# Altium footprint library linear.PCBLIB: 119 footprints (part 1 of 8)
Each footprint in its own frame and in the unit in brackets; x right, y up, seen from the top. Pads: shape width x height; smd on the part's side, far side on the other; paste and mask are expansions set on the pad; w line width, h text height; cw(c..) or ccw(c..) is an arc to the next point about the centre after c.
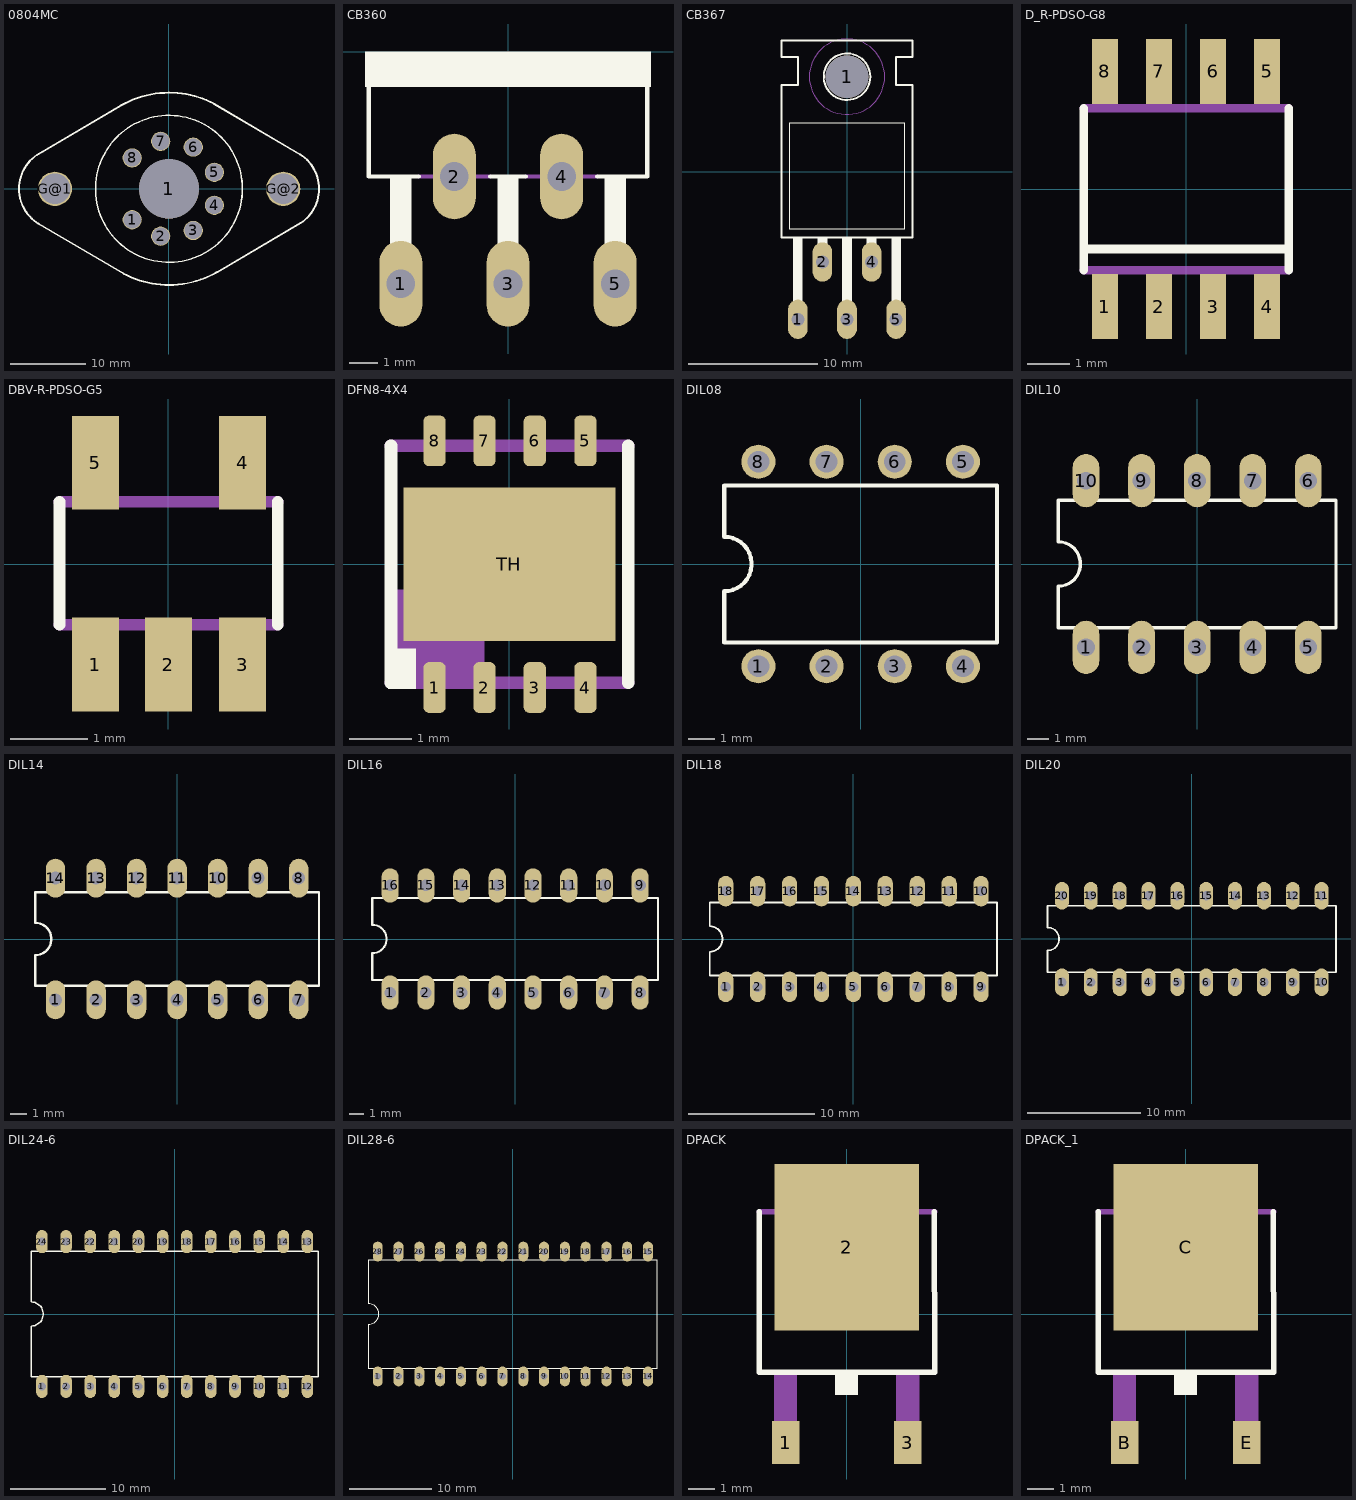
[diagram p0: the footprints below, top view; thin cyan lines are the x and y axes]

## 0804MC [mil]
pads (11):
  round 100 hole 91: 1(-191.34,-160.63) 2(-43.31,-246.06) 3(126,-216.54) 4(236,-85.43) 5(236,86) 6(126,217) 7(-43.31,247) 8(-191.34,161)
  round 310 hole 310: 1(0,0)
  round 178 hole 160: G@1(-593.31,0) G@2(594,0)
Top Overlay:
  circle w8: c0,0 r382
  lines w10: -680,180 -250,433 ; -679,-181 -234,-442 ; -675.41,-183.35 cw(c-567,0) -780,0 cw(c-566.81,0.11) -672.94,185 ; -250.86,433 cw(c-0.9,0.24) 0,500 cw(c2,-1) 236,442 ; -235.3,-441.18 ccw(c0,0) 0,-500 ccw(c0.07,0.26) 251,-432.52 ; 235,441 684,178 ; 251,-433 684,-178 ; 683,-178.94 ccw(c567.23,-0.42) 780,0 ccw(c567.17,0.45) 683,179

## CB360 [mil]
pads (5):
  oval 60x120 hole 40: 1(-150,-325) 2(-75,-175) 3(0,-325) 4(75,-175) 5(150,-325)
Top Overlay:
  rectangle: -200,-50 200,0
  rectangle: -165,-275 -135,-175
  rectangle: -15,-275 15,-175
  rectangle: 135,-275 165,-175
  lines w6: -195,-50 -195,-175 -125,-175 ; -25,-175 25,-175 ; 125,-175 195,-175 195,-50
Mechanical 16:
  rectangle: -165,-330 -135,-275
  rectangle: -15,-330 15,-275
  rectangle: 135,-330 165,-275
  lines w6: -125,-175 -25,-175 ; 25,-175 125,-175

## CB367 [mil]
pads (6):
  oval 60x120 hole 40: 1(-150,-450) 2(-75,-275) 3(0,-450) 4(75,-275) 5(150,-450)
  round 130 hole 130: 1(0,290)
Top Overlay:
  circle w6: c0,290 r71
  rectangle: -165,-400 -135,-200
  rectangle: -90,-225 -60,-200
  rectangle: -15,-400 15,-200
  rectangle: 135,-400 165,-200
  rectangle: 60,-225 90,-200
  lines w2: -175,-175 175,-175 175,150 -175,150 -175,-175
  lines w6: -200,-200 200,-200 200,265 150,265 150,350 200,350 200,400 -200,400 -200,350 -150,350 -150,265 -200,265 -200,-200
Mechanical 9:
  circle w0: c0,290 r115
Mechanical 10:
  circle w0: c0,290 r115
Mechanical 16:
  rectangle: -165,-445 -135,-400
  rectangle: -90,-270 -60,-225
  rectangle: -15,-445 15,-400
  rectangle: 60,-270 90,-225
  rectangle: 135,-445 165,-400

## D_R-PDSO-G8 [mil]
pads (8):
  rect 24x60 smd: 1(-75,-108.27) 2(-25,-108.27) 3(25,-108.27) 4(75,-108.27) 5(75,109) 6(25,109) 7(-25,109) 8(-75,109)
Top Overlay:
  lines w8: -94.49,-74.8 -94.49,-55.12 ; -94.49,75 -94.49,-55.12 ; 95,-74.8 95,-55.12 ; 95,75 95,-55.12 ; -94.49,-55.12 95,-55.12
Mechanical 16:
  rectangle: -84.65,-125.98 -65.35,-78.74
  rectangle: -34.65,-125.98 -15.35,-78.74
  rectangle: 16,-125.98 35,-78.74
  rectangle: 66,-125.98 85,-78.74
  rectangle: 66,79 85,126
  rectangle: 16,79 35,126
  rectangle: -34.65,79 -15.35,126
  rectangle: -84.65,79 -65.35,126
  lines w8: -94.49,-74.8 95,-74.8 ; -94.49,75 95,75

## DBV-R-PDSO-G5 [mil]
pads (5):
  rect 24x48 smd: 1(-37.4,-51.42) 2(0,-51.42) 3(38,-51.42) 4(38,52) 5(-37.4,52)
Top Overlay:
  lines w6: -55.87,-30.98 -55.87,32 ; 56,-30.98 56,32
Top Solder:
  rectangle: -51.18,27 -23.62,77
  rectangle: 24,27 52,77
  region: -23.62,-26.57 -51.18,-26.57 -51.18,-76.77 -23.62,-76.77
  region: 14,-26.57 -13.78,-26.57 -13.78,-76.77 14,-76.77
  region: 52,-26.57 24,-26.57 24,-76.77 52,-76.77
Mechanical 16:
  rectangle: -46.75,29 -28.05,60
  rectangle: 29,29 47,60
  rectangle: -46.75,-59.06 -28.05,-28.05
  rectangle: -9.35,-59.06 10,-28.05
  rectangle: 29,-59.06 47,-28.05
  lines w6: -55.87,-30.98 56,-30.98 ; -55.87,32 56,32

## DFN8-4X4 [mil]
pads (9):
  rrect50% 14x32 smd: 1(-47.24,-77.76) 2(-15.75,-77.76) 3(16,-77.76) 4(48,-77.76) 5(48,78) 6(16,78) 7(-15.75,78) 8(-47.24,78)
  rect 134x97 smd: TH(0,0)
Top Overlay:
  rectangle: -76.77,-78.74 -59.06,-53.15
  lines w8: -74.8,-74.8 -74.8,75 ; 75,-74.8 75,75
Top Paste:
  rectangle: -53.15,-91.54 -41.34,-63.98
  rectangle: -21.65,-91.54 -9.84,-63.98
  rectangle: 10,-91.54 22,-63.98
  rectangle: 42,-91.54 54,-63.98
  region: 54,92 42,92 42,64 54,64
  region: 22,92 10,92 10,64 22,64
  region: -9.84,92 -21.65,92 -21.65,64 -9.84,64
  region: -41.34,92 -53.15,92 -53.15,64 -41.34,64
  rectangle: -64.96,6 -5.91,46
  rectangle: 6,6 65,46
  region: -5.91,-5.91 -64.96,-5.91 -64.96,-45.28 -5.91,-45.28
  region: 65,-5.91 6,-5.91 6,-45.28 65,-45.28
Top Solder:
  rectangle: -55.12,-94.49 -39.37,-61.02
  rectangle: -23.62,-94.49 -7.87,-61.02
  rectangle: 8,-94.49 24,-61.02
  rectangle: 40,-94.49 56,-61.02
  region: 56,95 40,95 40,62 56,62
  region: 24,95 8,95 8,62 24,62
  region: -7.87,95 -23.62,95 -23.62,62 -7.87,62
  region: -39.37,95 -55.12,95 -55.12,62 -39.37,62
  rectangle: -67.91,-50.2 68,51
Mechanical 16:
  rectangle: -70.87,-70.87 -15.75,-15.75
  lines w8: -74.8,-74.8 75,-74.8 ; -74.8,75 75,75

## DIL08 [mil]
pads (8):
  round 50 hole 32: 1(-150,-150) 2(-50,-150) 3(50,-150) 4(150,-150) 5(150,150) 6(50,150) 7(-50,150) 8(-150,150)
Top Overlay:
  lines w6: -200,-115 200,-115 200,115 -200,115 -200,40 cw(c-200,0) -200,-40 -200,-115

## DIL10 [mil]
pads (10):
  oval 48x96 hole 32: 1(-200,-150) 2(-100,-150) 3(0,-150) 4(100,-150) 5(200,-150) 6(200,150) 7(100,150) 8(0,150) 9(-100,150) 10(-200,150)
Top Overlay:
  lines w6: -250,-115 250,-115 250,115 -250,115 -250,40 cw(c-250,0) -250,-40 -250,-115

## DIL14 [mil]
pads (14):
  oval 48x96 hole 32: 1(-300,-150) 2(-200,-150) 3(-100,-150) 4(0,-150) 5(100,-150) 6(200,-150) 7(300,-150) 8(300,150) 9(200,150) 10(100,150) 11(0,150) 12(-100,150) 13(-200,150) 14(-300,150)
Top Overlay:
  lines w6: -350,-115 350,-115 350,115 -350,115 -350,40 cw(c-350,0) -350,-40 -350,-115

## DIL16 [mil]
pads (16):
  oval 48x96 hole 32: 1(-350,-150) 2(-250,-150) 3(-150,-150) 4(-50,-150) 5(50,-150) 6(150,-150) 7(250,-150) 8(350,-150) 9(350,150) 10(250,150) 11(150,150) 12(50,150) 13(-50,150) 14(-150,150) 15(-250,150) 16(-350,150)
Top Overlay:
  lines w6: -400,-115 400,-115 400,115 -400,115 -400,40 cw(c-400,0) -400,-40 -400,-115

## DIL18 [mil]
pads (18):
  oval 48x96 hole 32: 1(-400,-150) 2(-300,-150) 3(-200,-150) 4(-100,-150) 5(0,-150) 6(100,-150) 7(200,-150) 8(300,-150) 9(400,-150) 10(400,150) 11(300,150) 12(200,150) 13(100,150) 14(0,150) 15(-100,150) 16(-200,150) 17(-300,150) 18(-400,150)
Top Overlay:
  lines w6: -450,-115 450,-115 450,115 -450,115 -450,40 cw(c-450,0) -450,-40 -450,-115

## DIL20 [mil]
pads (20):
  oval 48x96 hole 32: 1(-450,-150) 2(-350,-150) 3(-250,-150) 4(-150,-150) 5(-50,-150) 6(50,-150) 7(150,-150) 8(250,-150) 9(350,-150) 10(450,-150) 11(450,150) 12(350,150) 13(250,150) 14(150,150) 15(50,150) 16(-50,150) 17(-150,150) 18(-250,150) 19(-350,150) 20(-450,150)
Top Overlay:
  lines w6: -500,-115 500,-115 500,115 -500,115 -500,40 cw(c-500,0) -500,-40 -500,-115

## DIL24-6 [mil]
pads (24):
  oval 48x96 hole 32: 1(-550,-300) 2(-450,-300) 3(-350,-300) 4(-250,-300) 5(-150,-300) 6(-50,-300) 7(50,-300) 8(150,-300) 9(250,-300) 10(350,-300) 11(450,-300) 12(550,-300) 13(550,300) 14(450,300) 15(350,300) 16(250,300) 17(150,300) 18(50,300) 19(-50,300) 20(-150,300) 21(-250,300) 22(-350,300) 23(-450,300) 24(-550,300)
Top Overlay:
  lines w6: -595,-260 -595,-50 ccw(c-595,0) -595,50 -595,260 595,260 595,-260 -595,-260

## DIL28-6 [mil]
pads (28):
  oval 48x96 hole 32: 1(-650,-300) 2(-550,-300) 3(-450,-300) 4(-350,-300) 5(-250,-300) 6(-150,-300) 7(-50,-300) 8(50,-300) 9(150,-300) 10(250,-300) 11(350,-300) 12(450,-300) 13(550,-300) 14(650,-300) 15(650,300) 16(550,300) 17(450,300) 18(350,300) 19(250,300) 20(150,300) 21(50,300) 22(-50,300) 23(-150,300) 24(-250,300) 25(-350,300) 26(-450,300) 27(-550,300) 28(-650,300)
Top Overlay:
  lines w6: -695,-260 -695,-50 ccw(c-695,0) -695,50 -695,260 695,260 695,-260 -695,-260

## DPACK [mil]
pads (3):
  rect 40x63 smd: 1(-89.76,-188.98) 3(90,-188.98)
  rect 213x245 smd: 2(0,99)
Top Overlay:
  rectangle: -17,-119 17,-89
  lines w8: -129,151 -129.02,-85 130,-85 129,151
Mechanical 16:
  rectangle: -107,-203 -73,-89
  rectangle: 73,-203 107,-89
  region: 0,0 10,0 10,10 0,10
  lines w8: -129.02,151 130,151 ; -101,155 -101,183 -83,201 83,201 101,183 101,155 -101,155

## DPACK_1 [mil]
pads (3):
  rect 40x63 smd: B(-89.76,-188.98) E(90,-188.98)
  rect 213x245 smd: C(0,99)
Top Overlay:
  rectangle: -17,-119 17,-89
  lines w8: -129,151 -129.02,-85 130,-85 129,151
Mechanical 16:
  rectangle: -107,-203 -73,-89
  rectangle: 73,-203 107,-89
  region: 0,0 10,0 10,10 0,10
  lines w8: -129.02,151 130,151 ; -101,155 -101,183 -83,201 83,201 101,183 101,155 -101,155